# Altium schematic symbol library 2D222.Schlib: 1 symbol
Pins are listed as number, name and electrical type; pins without a type are passive.

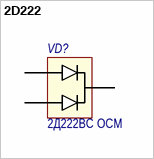
[diagram p0: symbol 2D222]

## 2D222
designator VD?, comment Наименование: 2Д222ВС ОСМ  (hidden comment: 2D222VS OSM)
Назначение: Сдвоенный диод
footprint 1278ЕР1Т - БУ
pins: 8, 11, 17